# Altium schematic symbol library R7S921041VCBGBC0.SchLib: 2 symbols
Pins are listed as number, name and electrical type; pins without a type are passive.

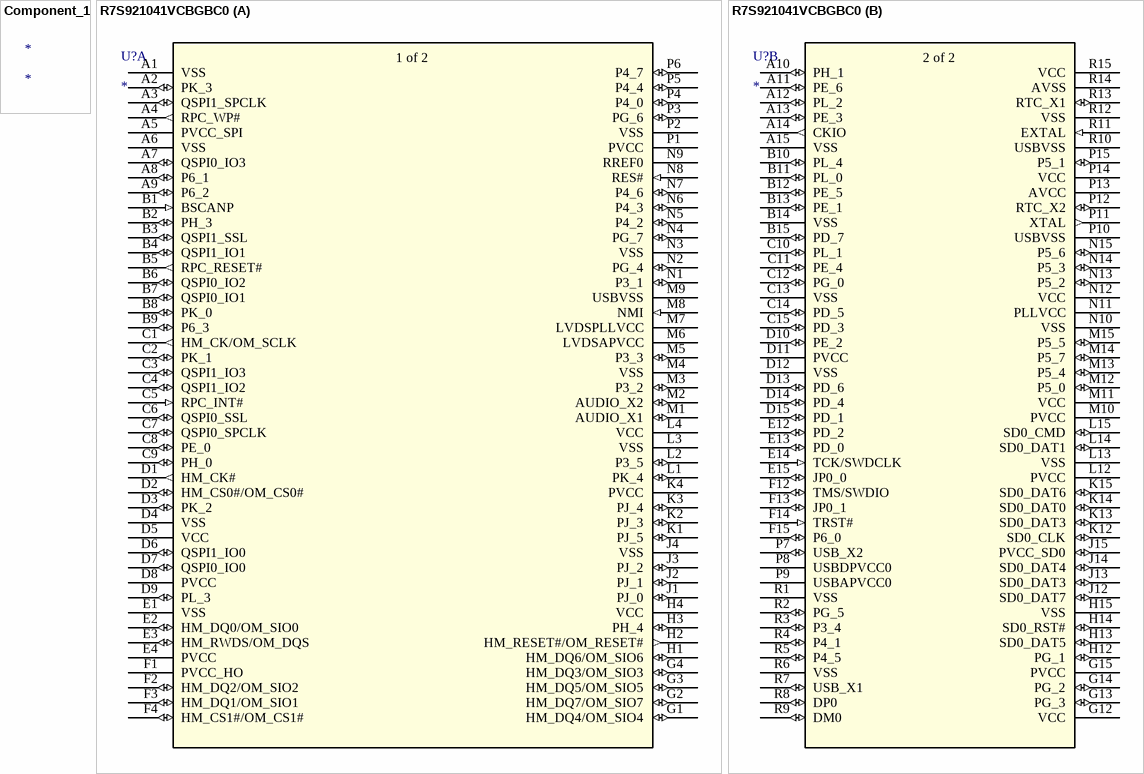
[diagram p0: symbols Component_1 to R7S921041VCBGBC0]

## Component_1
designator *

## R7S921041VCBGBC0
designator U?
No Description Available; Mfr_Name: Renesas Electronics; RefDes: RefDes; Type: Type
footprint BGA176_R7S921_REN
part A pins: A1 VSS (power), A2 PK_3 (io), A3 QSPI1_SPCLK (io), A4 RPC_WP# (out), A5 PVCC_SPI (power), A6 VSS (power), A7 QSPI0_IO3 (io), A8 P6_1 (io), A9 P6_2 (io), B1 BSCANP (in), B2 PH_3 (io), B3 QSPI1_SSL (io), B4 QSPI1_IO1 (io), B5 RPC_RESET# (out), B6 QSPI0_IO2 (io), B7 QSPI0_IO1 (io), B8 PK_0 (io), B9 P6_3 (io), C1 HM_CK/OM_SCLK (out), C2 PK_1 (io), C3 QSPI1_IO3 (io), C4 QSPI1_IO2 (io), C5 RPC_INT# (in), C6 QSPI0_SSL (io), C7 QSPI0_SPCLK (io), C8 PE_0 (io), C9 PH_0 (io), D1 HM_CK# (out), D2 HM_CS0#/OM_CS0# (io), D3 PK_2 (io), D4 VSS (power), D5 VCC (power), D6 QSPI1_IO0 (io), D7 QSPI0_IO0 (io), D8 PVCC (power), D9 PL_3 (io), E1 VSS (power), E2 HM_DQ0/OM_SIO0 (io), E3 HM_RWDS/OM_DQS (io), E4 PVCC (power), F1 PVCC_HO (power), F2 HM_DQ2/OM_SIO2 (io), F3 HM_DQ1/OM_SIO1 (io), F4 HM_CS1#/OM_CS1# (io), G1 HM_DQ4/OM_SIO4 (io), G2 HM_DQ7/OM_SIO7 (io), G3 HM_DQ5/OM_SIO5 (io), G4 HM_DQ3/OM_SIO3 (io), H1 HM_DQ6/OM_SIO6 (io), H2 HM_RESET#/OM_RESET# (out), H3 PH_4 (io), H4 VCC (power), J1 PJ_0 (io), J2 PJ_1 (io), J3 PJ_2 (io), J4 VSS (power), K1 PJ_5 (io), K2 PJ_3 (io), K3 PJ_4 (io), K4 PVCC (power), L1 PK_4 (io), L2 P3_5 (io), L3 VSS (power), L4 VCC (power), M1 AUDIO_X1 (io), M2 AUDIO_X2 (io), M3 P3_2 (io), M4 VSS (power), M5 P3_3 (io), M6 LVDSAPVCC (power), M7 LVDSPLLVCC (power), M8 NMI (in), M9 USBVSS (power), N1 P3_1 (io), N2 PG_4 (io), N3 VSS (power), N4 PG_7 (io), N5 P4_2 (io), N6 P4_3 (io), N7 P4_6 (io), N8 RES# (in), N9 RREF0, P1 PVCC (power), P2 VSS (power), P3 PG_6 (io), P4 P4_0 (io), P5 P4_4 (io), P6 P4_7 (io)
part B pins: A10 PH_1 (io), A11 PE_6 (io), A12 PL_2 (io), A13 PE_3 (io), A14 CKIO (out), A15 VSS (power), B10 PL_4 (io), B11 PL_0 (io), B12 PE_5 (io), B13 PE_1 (io), B14 VSS (power), B15 PD_7 (io), C10 PL_1 (io), C11 PE_4 (io), C12 PG_0 (io), C13 VSS (power), C14 PD_5 (io), C15 PD_3 (io), D10 PE_2 (io), D11 PVCC (power), D12 VSS (power), D13 PD_6 (io), D14 PD_4 (io), D15 PD_1 (io), E12 PD_2 (io), E13 PD_0 (io), E14 TCK/SWDCLK (in), E15 JP0_0 (io), F12 TMS/SWDIO (io), F13 JP0_1 (io), F14 TRST# (in), F15 P6_0 (io), G12 VCC (power), G13 PG_3 (io), G14 PG_2 (io), G15 PVCC (power), H12 PG_1 (io), H13 SD0_DAT5 (io), H14 SD0_RST# (io), H15 VSS (power), J12 SD0_DAT7 (io), J13 SD0_DAT3 (io), J14 SD0_DAT4 (io), J15 PVCC_SD0 (io), K12 SD0_CLK (io), K13 SD0_DAT3 (io), K14 SD0_DAT0 (io), K15 SD0_DAT6 (io), L12 PVCC (power), L13 VSS (power), L14 SD0_DAT1 (io), L15 SD0_CMD (io), M10 PVCC (power), M11 VCC (power), M12 P5_0 (io), M13 P5_4 (io), M14 P5_7 (io), M15 P5_5 (io), N10 VSS (power), N11 PLLVCC (power), N12 VCC (power), N13 P5_2 (io), N14 P5_3 (io), N15 P5_6 (io), P7 USB_X2 (io), P8 USBDPVCC0 (power), P9 USBAPVCC0 (power), P10 USBVSS (power), P11 XTAL (out), P12 RTC_X2 (io), P13 AVCC (power), P14 VCC (power), P15 P5_1 (io), R1 VSS (power), R2 PG_5 (io), R3 P3_4 (io), R4 P4_1 (io), R5 P4_5 (io), R6 VSS (power), R7 USB_X1 (io), R8 DP0 (io), R9 DM0 (io), R10 USBVSS (power), R11 EXTAL (in), R12 VSS (power), R13 RTC_X1 (io), R14 AVSS (power), R15 VCC (power)
part A text: 1 of 2
part B text: 2 of 2